# Altium footprint library Step Up.PCBLIB: 1 footprints
Each footprint in its own frame and in the unit in brackets; x right, y up, seen from the top. Pads: shape width x height; smd on the part's side, far side on the other; paste and mask are expansions set on the pad; w line width, h text height; cw(c..) or ccw(c..) is an arc to the next point about the centre after c.
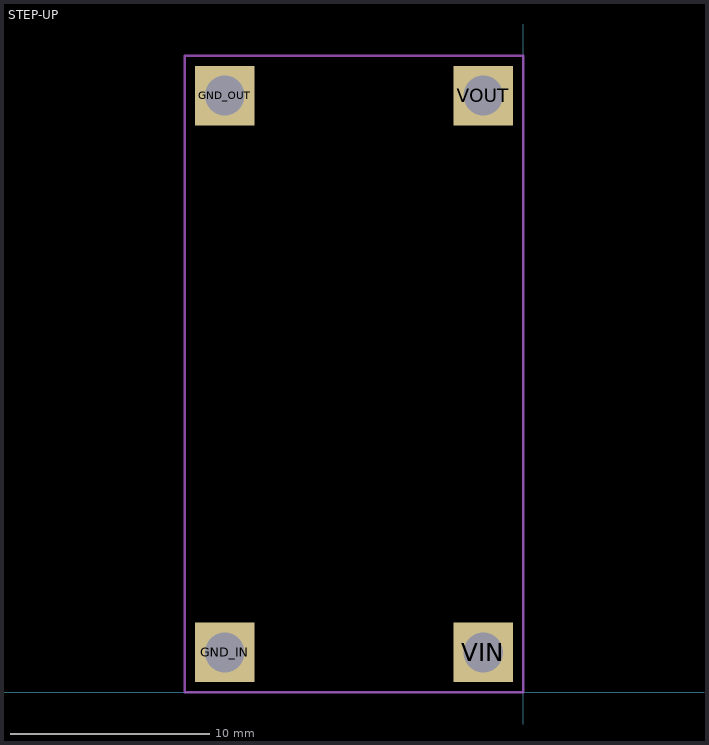
[diagram p0: the footprint, top view; thin cyan lines are the x and y axes]

## STEP-UP [mm]
pads (4):
  rect 3x3 / inner round 2.772 / far side rect 3x3 hole 2: GND_IN(-15,2) GND_OUT(-15,30) VIN(-2,2) VOUT(-2,30)
tPlace:
  lines w0.127: -17,0 0,0 0,32 -17,32 -17,0